# EAGLE library part 6180XX25023_61802525023 (library WR-DSUB)
WR-DSUB Male PCB Connector Kind Properties Quality Class:3 as per IEC 60 603-13 Gender:Male Type:Straight Insulator Material:PBT Insulator Flammability Rating:UL94 V-0 Color:White Contact Material:Copper Alloy Contact Plating:Gold Contact Type:Stamped Shielding Material:Steel Shielding Plating:Tin General Information Operating Temperature:-55 up to +105 °C Compliance:RoHS Electrical Properties IR1:3 A Working Voltage:125 V (AC) Withstanding Voltage:1000 V (AC) Contact Resistance:30 mΩ <https://www.we-online.com/catalog/media/o33086v209%20Family_I-O_DSUB_PCB_Male_6180xx25023_pf2.jpg> Details see: https://www.we-online.com/catalog/en/DSUB_MALE_PCB_CONNECTOR_6180XX25023/ Updated by Yingchun, Shan 2020-01-08 2020 (C) Würth Elektronik
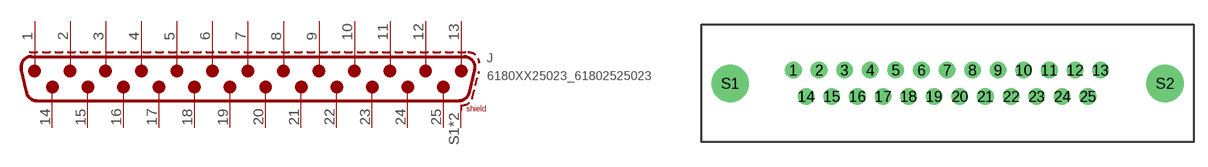
[diagram p53: symbol with the pads of 61802525023; footprint 61802525023]

Designator prefix J

## 6180XX25023_61802525023 (DATASHEET-URL: https://www.we-online.com/redexpert/spec/61802525023?ae; GENDER: Male; PART-NUMBER: 61802525023; PINS: 25; TYPE: Straight; VALUE: 61802525023; WE-NUMBER: 61802525023; WORKING-VOLTAGE: 125 V(AC))  [61802525023]
1  1
2  2
3  3
4  4
5  5
6  6
7  7
8  8
9  9
10  10
11  11
12  12
13  13
14  14
15  15
16  16
17  17
18  18
19  19
20  20
21  21
22  22
23  23
24  24
25  25
S1  SHIELD
S2  SHIELD

## Footprint 61802525023 (pad centres in mm)
WR-DSUB Male PCB Connector, 25 Pins
drill 1.2: 1 -16.69,1.42; 2 -13.92,1.42; 3 -11.15,1.42; 4 -8.38,1.42; 5 -5.61,1.42; 6 -2.84,1.42; 7 -0.07,1.42; 8 2.7,1.42; 9 5.47,1.42; 10 8.24,1.42; 11 11.01,1.42; 12 13.78,1.42; 13 16.55,1.42; 14 -15.305,-1.42; 15 -12.535,-1.42; 16 -9.765,-1.42; 17 -6.995,-1.42; 18 -4.225,-1.42; 19 -1.455,-1.42; 20 1.315,-1.42; 21 4.085,-1.42; 22 6.855,-1.42; 23 9.625,-1.42; 24 12.395,-1.42; 25 15.165,-1.42
drill 3.05: S1 -23.52,0; S2 23.52,0